# Altium schematic symbol library SWITCH_HS.Schlib: 1 symbol
Pins are listed as number, name and electrical type; pins without a type are passive.

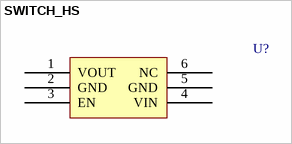
[diagram p0: symbol SWITCH_HS]

## SWITCH_HS
designator U?
pins: 1 VOUT, 2 GND, 3 EN (power), 4 VIN, 5 GND, 6 NC
2 alternate drawings of the same symbol